# Altium footprint library SLW1166415ASD.PcbLib: 1 footprints
Each footprint in its own frame and in the unit in brackets; x right, y up, seen from the top. Pads: shape width x height; smd on the part's side, far side on the other; paste and mask are expansions set on the pad; w line width, h text height; cw(c..) or ccw(c..) is an arc to the next point about the centre after c.
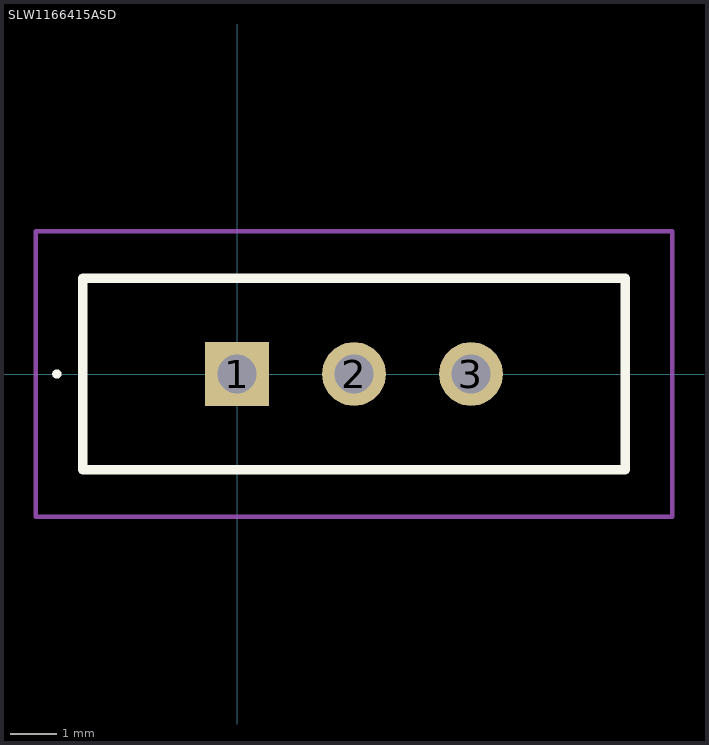
[diagram p0: the footprint, top view; thin cyan lines are the x and y axes]

## SLW1166415ASD [mm]
pads (3):
  rect 1.365x1.365 hole 0.84: 1(0,0)
  round 1.365 hole 0.84: 2(2.5,0) 3(5,0)
Top Overlay:
  lines w0.1: -3.9,0 cw(c-3.85,0) -3.8,0 ; -3.9,0 -3.9,0 ; -3.9,0 ccw(c-3.85,0) -3.8,0 ; -3.8,0 -3.8,0
  lines w0.2: -3.3,-2.05 8.3,-2.05 8.3,2.05 -3.3,2.05 -3.3,-2.05
Mechanical 15:
  lines w0.1: -3.3,-2.05 8.3,-2.05 8.3,2.05 -3.3,2.05 -3.3,-2.05
Mechanical 20:
  lines w0.1: -4.3,-3.05 9.3,-3.05 9.3,3.05 -4.3,3.05 -4.3,-3.05